# Altium footprint library Generic components.PcbLib: 18 footprints (part 2 of 2)
Each footprint in its own frame and in the unit in brackets; x right, y up, seen from the top. Pads: shape width x height; smd on the part's side, far side on the other; paste and mask are expansions set on the pad; w line width, h text height; cw(c..) or ccw(c..) is an arc to the next point about the centre after c.
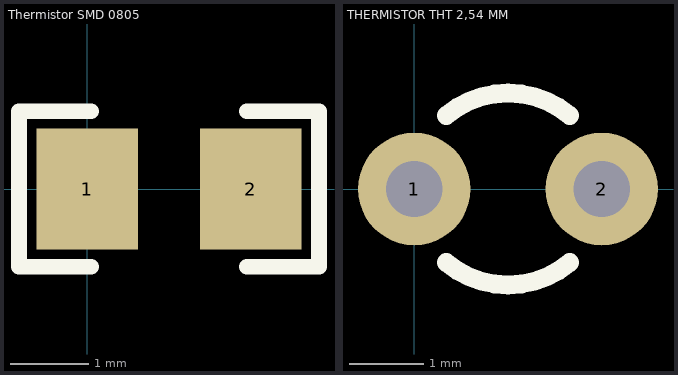
[diagram p1: the footprints below, top view; thin cyan lines are the x and y axes]

## Thermistor SMD 0805 [mm] "SMD thermistor 0805 package"
height 0.7
pads (2):
  rect 1.3x1.55 smd: 1(0,0) 2(2.1,0)
Top Overlay:
  lines w0.2: 0.05,-1 -0.65,-1 -0.875,-1 -0.875,1 -0.65,1 0.05,1 ; 2.05,-1 2.75,-1 2.975,-1 2.975,1 2.75,1 2.05,1
3D body: height 0.7, standoff 0, extent 1.9,-0.725 2.2,0.725
3D body: height 0.7, standoff 0, extent -0.1,-0.725 0.2,0.725
3D body: height 0.7, standoff 0, extent 0.2,-0.725 1.9,0.725

## THERMISTOR THT 2,54 MM [mil]
pads (2):
  round 60 hole 30: 1(0,0) 2(100,0)
Top Overlay:
  lines w10: 17.1,-39.21 ccw(c50,0) 82.9,-39.21 ; 17.1,39.21 cw(c50,0) 82.9,39.21